# Altium footprint library CONN_HDR_MINI.PcbLib: 37 footprints (part 1 of 3)
Each footprint in its own frame and in the unit in brackets; x right, y up, seen from the top. Pads: shape width x height; smd on the part's side, far side on the other; paste and mask are expansions set on the pad; w line width, h text height; cw(c..) or ccw(c..) is an arc to the next point about the centre after c.
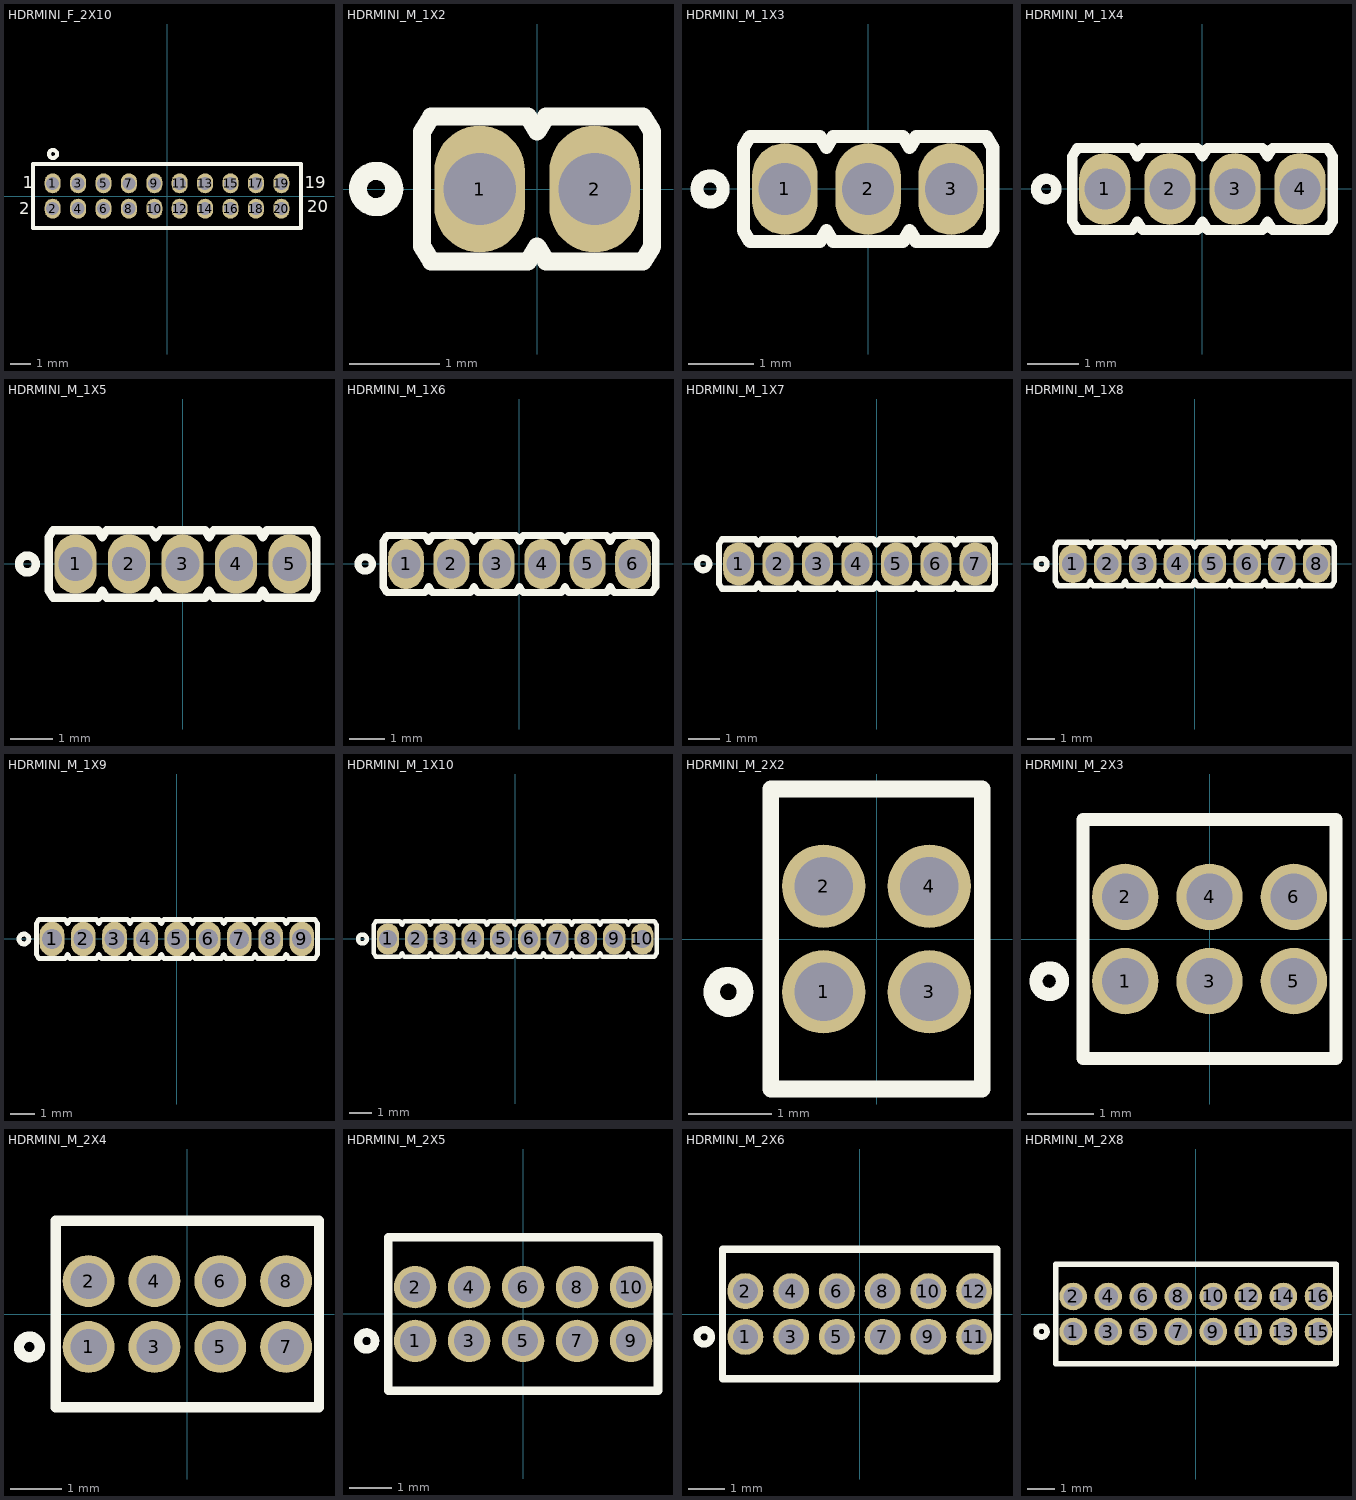
[diagram p0: the footprints below, top view; thin cyan lines are the x and y axes]

## HDRMINI_F_2X10 [mm] "FCI Minitek127® BTB, HEADER UNSHROUDED, 20   Part Number:  20021311-00020T4LF"
height 2
pads (20):
  oval 0.8x1 hole 0.65 mask+0.05: 1(-5.715,0.635) 2(-5.715,-0.635) 3(-4.445,0.635) 4(-4.445,-0.635) 5(-3.175,0.635) 6(-3.175,-0.635) 7(-1.905,0.635) 8(-1.905,-0.635) 9(-0.635,0.635) 10(-0.635,-0.635) 11(0.635,0.635) 12(0.635,-0.635) 13(1.905,0.635) 14(1.905,-0.635) 15(3.175,0.635) 16(3.175,-0.635) 17(4.445,0.635) 18(4.445,-0.635) 19(5.715,0.635) 20(5.715,-0.635)
Top Overlay:
  circle w0.2: c-5.7,2.1 r0.2
  lines w0.2: -6.7,-1.6 6.7,-1.6 6.7,1.6 -6.7,1.6 -6.7,-1.6
  text "20" at 7,-0.8 h0.6
  text "19" at 6.9,0.4 h0.6
  text "1" at -7.2,0.4 h0.6
  text "2" at -7.4,-0.9 h0.6
3D body "hdr127_f.stp": height 4.3, standoff -2.4, extent -6.58,-1.5 6.58,1.5

## HDRMINI_M_1X2 [mm] "mini header (50mil pitch)"
pads (2):
  oval 1x1.4 hole 0.8 mask+0.05: 1(-0.635,0) 2(0.635,0)
Top Overlay:
  circle w0.2: c-1.778,0 r0.2
  lines w0.2: -1.27,-0.635 -1.27,0.635 -1.171,0.8 -0.099,0.8 0,0.635 0.099,0.8 1.171,0.8 1.27,0.635 1.27,-0.635 1.171,-0.8 0.099,-0.8 0,-0.635 -0.099,-0.8 -1.171,-0.8 -1.27,-0.635
3D body: height 7.3, standoff -2.5, extent 0.435,-0.2 0.835,0.2
3D body: height 2.8, standoff 0, extent 0,-0.635 1.27,0.635
3D body: height 2.8, standoff 0, extent -1.27,-0.635 0,0.635
3D body: height 7.3, standoff -2.5, extent -0.835,-0.2 -0.435,0.2

## HDRMINI_M_1X3 [mm] "mini header (50mil pitch)"
pads (3):
  oval 1x1.4 hole 0.8 mask+0.05: 1(-1.27,0) 2(0,0) 3(1.27,0)
Top Overlay:
  circle w0.2: c-2.413,0 r0.2
  lines w0.2: -1.905,-0.635 -1.806,-0.8 -0.734,-0.8 -0.635,-0.635 -0.536,-0.8 0.536,-0.8 0.635,-0.635 0.734,-0.8 1.806,-0.8 1.905,-0.635 1.905,0.635 1.806,0.8 0.734,0.8 0.635,0.635 0.536,0.8 -0.536,0.8 -0.635,0.635 -0.734,0.8 -1.806,0.8 -1.905,0.635 -1.905,-0.635
3D body: height 7.3, standoff -2.5, extent 1.07,-0.2 1.47,0.2
3D body: height 2.8, standoff 0, extent 0.635,-0.635 1.905,0.635
3D body: height 7.3, standoff -2.5, extent -0.2,-0.2 0.2,0.2
3D body: height 2.8, standoff 0, extent -0.635,-0.635 0.635,0.635
3D body: height 7.3, standoff -2.5, extent -1.47,-0.2 -1.07,0.2
3D body: height 2.8, standoff 0, extent -1.905,-0.635 -0.635,0.635

## HDRMINI_M_1X4 [mm] "mini header (50mil pitch)"
pads (4):
  oval 1x1.4 hole 0.8 mask+0.05: 1(-1.905,0) 2(-0.635,0) 3(0.635,0) 4(1.905,0)
Top Overlay:
  circle w0.2: c-3.048,0 r0.2
  lines w0.2: -2.54,-0.635 -2.54,0.635 -2.441,0.8 -1.369,0.8 -1.27,0.635 -1.171,0.8 -0.099,0.8 0,0.635 0.099,0.8 1.171,0.8 1.27,0.635 1.369,0.8 2.441,0.8 2.54,0.635 2.54,-0.635 2.441,-0.8 1.369,-0.8 1.27,-0.635 1.171,-0.8 0.099,-0.8 0,-0.635 -0.099,-0.8 -1.171,-0.8 -1.27,-0.635 -1.369,-0.8 -2.441,-0.8 -2.54,-0.635
3D body: height 2.8, standoff 0, extent -2.54,-0.635 -1.27,0.635
3D body: height 7.3, standoff -2.5, extent -2.105,-0.2 -1.705,0.2
3D body: height 2.8, standoff 0, extent 1.27,-0.635 2.54,0.635
3D body: height 7.3, standoff -2.5, extent 1.705,-0.2 2.105,0.2
3D body: height 2.8, standoff 0, extent 0,-0.635 1.27,0.635
3D body: height 7.3, standoff -2.5, extent 0.435,-0.2 0.835,0.2
3D body: height 2.8, standoff 0, extent -1.27,-0.635 0,0.635
3D body: height 7.3, standoff -2.5, extent -0.835,-0.2 -0.435,0.2

## HDRMINI_M_1X5 [mm] "mini header (50mil pitch)"
pads (5):
  oval 1x1.4 hole 0.8 mask+0.05: 1(-2.54,0) 2(-1.27,0) 3(0,0) 4(1.27,0) 5(2.54,0)
Top Overlay:
  circle w0.2: c-3.683,0 r0.2
  lines w0.2: -3.175,-0.635 -3.175,0.635 -3.076,0.8 -2.004,0.8 -1.905,0.635 -1.806,0.8 -0.734,0.8 -0.635,0.635 -0.536,0.8 0.536,0.8 0.635,0.635 0.734,0.8 1.806,0.8 1.905,0.635 2.004,0.8 3.076,0.8 3.175,0.635 3.175,-0.635 3.076,-0.8 2.004,-0.8 1.905,-0.635 1.806,-0.8 0.734,-0.8 0.635,-0.635 0.536,-0.8 -0.536,-0.8 -0.635,-0.635 -0.734,-0.8 -1.806,-0.8 -1.905,-0.635 -2.004,-0.8 -3.076,-0.8 -3.175,-0.635
3D body: height 2.8, standoff 0, extent -3.175,-0.635 -1.905,0.635
3D body: height 7.3, standoff -2.5, extent -2.74,-0.2 -2.34,0.2
3D body: height 2.8, standoff 0, extent 1.905,-0.635 3.175,0.635
3D body: height 7.3, standoff -2.5, extent 2.34,-0.2 2.74,0.2
3D body: height 2.8, standoff 0, extent 0.635,-0.635 1.905,0.635
3D body: height 7.3, standoff -2.5, extent 1.07,-0.2 1.47,0.2
3D body: height 2.8, standoff 0, extent -0.635,-0.635 0.635,0.635
3D body: height 7.3, standoff -2.5, extent -0.2,-0.2 0.2,0.2
3D body: height 2.8, standoff 0, extent -1.905,-0.635 -0.635,0.635
3D body: height 7.3, standoff -2.5, extent -1.47,-0.2 -1.07,0.2

## HDRMINI_M_1X6 [mm] "mini header (50mil pitch)"
pads (6):
  oval 1x1.4 hole 0.8 mask+0.05: 1(-3.175,0) 2(-1.905,0) 3(-0.635,0) 4(0.635,0) 5(1.905,0) 6(3.175,0)
Top Overlay:
  circle w0.2: c-4.318,0 r0.2
  lines w0.2: -3.81,-0.635 -3.711,-0.8 -2.639,-0.8 -2.54,-0.635 -2.441,-0.8 -1.369,-0.8 -1.27,-0.635 -1.171,-0.8 -0.099,-0.8 0,-0.635 0.099,-0.8 1.171,-0.8 1.27,-0.635 1.369,-0.8 2.441,-0.8 2.54,-0.635 2.639,-0.8 3.711,-0.8 3.81,-0.635 3.81,0.635 3.711,0.8 2.639,0.8 2.54,0.635 2.441,0.8 1.369,0.8 1.27,0.635 1.171,0.8 0.099,0.8 0,0.635 -0.099,0.8 -1.171,0.8 -1.27,0.635 -1.369,0.8 -2.441,0.8 -2.54,0.635 -2.639,0.8 -3.711,0.8 -3.81,0.635 -3.81,-0.635
3D body: height 2.8, standoff 0, extent -2.54,-0.635 -1.27,0.635
3D body: height 7.3, standoff -2.5, extent -2.105,-0.2 -1.705,0.2
3D body: height 2.8, standoff 0, extent -1.27,-0.635 0,0.635
3D body: height 7.3, standoff -2.5, extent -0.835,-0.2 -0.435,0.2
3D body: height 2.8, standoff 0, extent 0,-0.635 1.27,0.635
3D body: height 7.3, standoff -2.5, extent 0.435,-0.2 0.835,0.2
3D body: height 2.8, standoff 0, extent 1.27,-0.635 2.54,0.635
3D body: height 7.3, standoff -2.5, extent 1.705,-0.2 2.105,0.2
3D body: height 2.8, standoff 0, extent 2.54,-0.635 3.81,0.635
3D body: height 7.3, standoff -2.5, extent 2.975,-0.2 3.375,0.2
3D body: height 7.3, standoff -2.5, extent -3.375,-0.2 -2.975,0.2
3D body: height 2.8, standoff 0, extent -3.81,-0.635 -2.54,0.635

## HDRMINI_M_1X7 [mm] "mini header (50mil pitch)"
pads (7):
  oval 1x1.4 hole 0.8 mask+0.05: 1(-4.445,0) 2(-3.175,0) 3(-1.905,0) 4(-0.635,0) 5(0.635,0) 6(1.905,0) 7(3.175,0)
Top Overlay:
  circle w0.2: c-5.588,0 r0.2
  lines w0.2: -5.08,-0.635 -4.981,-0.8 -3.909,-0.8 -3.81,-0.635 -3.711,-0.8 -2.639,-0.8 -2.54,-0.635 -2.441,-0.8 -1.369,-0.8 -1.27,-0.635 -1.171,-0.8 -0.099,-0.8 0,-0.635 0.099,-0.8 1.171,-0.8 1.27,-0.635 1.369,-0.8 2.441,-0.8 2.54,-0.635 2.639,-0.8 3.711,-0.8 3.81,-0.635 3.81,0.635 3.711,0.8 2.639,0.8 2.54,0.635 2.441,0.8 1.369,0.8 1.27,0.635 1.171,0.8 0.099,0.8 0,0.635 -0.099,0.8 -1.171,0.8 -1.27,0.635 -1.369,0.8 -2.441,0.8 -2.54,0.635 -2.639,0.8 -3.711,0.8 -3.81,0.635 -3.909,0.8 -4.981,0.8 -5.08,0.635 -5.08,-0.635
3D body: height 2.8, standoff 0, extent -3.81,-0.635 -2.54,0.635
3D body: height 7.3, standoff -2.5, extent -3.375,-0.2 -2.975,0.2
3D body: height 2.8, standoff 0, extent -2.54,-0.635 -1.27,0.635
3D body: height 7.3, standoff -2.5, extent -2.105,-0.2 -1.705,0.2
3D body: height 2.8, standoff 0, extent -1.27,-0.635 0,0.635
3D body: height 7.3, standoff -2.5, extent -0.835,-0.2 -0.435,0.2
3D body: height 2.8, standoff 0, extent 0,-0.635 1.27,0.635
3D body: height 7.3, standoff -2.5, extent 0.435,-0.2 0.835,0.2
3D body: height 2.8, standoff 0, extent 1.27,-0.635 2.54,0.635
3D body: height 7.3, standoff -2.5, extent 1.705,-0.2 2.105,0.2
3D body: height 7.3, standoff -2.5, extent 2.975,-0.2 3.375,0.2
3D body: height 2.8, standoff 0, extent 2.54,-0.635 3.81,0.635
3D body: height 7.3, standoff -2.5, extent -4.645,-0.2 -4.245,0.2
3D body: height 2.8, standoff 0, extent -5.08,-0.635 -3.81,0.635

## HDRMINI_M_1X8 [mm] "mini header (50mil pitch)"
pads (8):
  oval 1x1.4 hole 0.8 mask+0.05: 1(-4.445,0) 2(-3.175,0) 3(-1.905,0) 4(-0.635,0) 5(0.635,0) 6(1.905,0) 7(3.175,0) 8(4.445,0)
Top Overlay:
  circle w0.2: c-5.588,0 r0.2
  lines w0.2: -5.08,-0.635 -4.981,-0.8 -3.909,-0.8 -3.81,-0.635 -3.711,-0.8 -2.639,-0.8 -2.54,-0.635 -2.441,-0.8 -1.369,-0.8 -1.27,-0.635 -1.171,-0.8 -0.099,-0.8 0,-0.635 0.099,-0.8 1.171,-0.8 1.27,-0.635 1.369,-0.8 2.441,-0.8 2.54,-0.635 2.639,-0.8 3.711,-0.8 3.81,-0.635 3.909,-0.8 4.981,-0.8 5.08,-0.635 5.08,0.635 4.981,0.8 3.909,0.8 3.81,0.635 3.711,0.8 2.639,0.8 2.54,0.635 2.441,0.8 1.369,0.8 1.27,0.635 1.171,0.8 0.099,0.8 0,0.635 -0.099,0.8 -1.171,0.8 -1.27,0.635 -1.369,0.8 -2.441,0.8 -2.54,0.635 -2.639,0.8 -3.711,0.8 -3.81,0.635 -3.909,0.8 -4.981,0.8 -5.08,0.635 -5.08,-0.635
3D body: height 2.8, standoff 0, extent -3.81,-0.635 -2.54,0.635
3D body: height 7.3, standoff -2.5, extent -3.375,-0.2 -2.975,0.2
3D body: height 2.8, standoff 0, extent -2.54,-0.635 -1.27,0.635
3D body: height 7.3, standoff -2.5, extent -2.105,-0.2 -1.705,0.2
3D body: height 2.8, standoff 0, extent -1.27,-0.635 0,0.635
3D body: height 7.3, standoff -2.5, extent -0.835,-0.2 -0.435,0.2
3D body: height 2.8, standoff 0, extent 0,-0.635 1.27,0.635
3D body: height 7.3, standoff -2.5, extent 0.435,-0.2 0.835,0.2
3D body: height 2.8, standoff 0, extent 1.27,-0.635 2.54,0.635
3D body: height 7.3, standoff -2.5, extent 1.705,-0.2 2.105,0.2
3D body: height 7.3, standoff -2.5, extent 2.975,-0.2 3.375,0.2
3D body: height 2.8, standoff 0, extent 2.54,-0.635 3.81,0.635
3D body: height 7.3, standoff -2.5, extent 4.245,-0.2 4.645,0.2
3D body: height 2.8, standoff 0, extent 3.81,-0.635 5.08,0.635
3D body: height 7.3, standoff -2.5, extent -4.645,-0.2 -4.245,0.2
3D body: height 2.8, standoff 0, extent -5.08,-0.635 -3.81,0.635

## HDRMINI_M_1X9 [mm] "mini header (50mil pitch)"
pads (9):
  oval 1x1.4 hole 0.8 mask+0.05: 1(-5.08,0) 2(-3.81,0) 3(-2.54,0) 4(-1.27,0) 5(0,0) 6(1.27,0) 7(2.54,0) 8(3.81,0) 9(5.08,0)
Top Overlay:
  circle w0.2: c-6.223,0 r0.2
  lines w0.2: -5.715,-0.635 -5.616,-0.8 -4.544,-0.8 -4.445,-0.635 -4.346,-0.8 -3.274,-0.8 -3.175,-0.635 -3.076,-0.8 -2.004,-0.8 -1.905,-0.635 -1.806,-0.8 -0.734,-0.8 -0.635,-0.635 -0.536,-0.8 0.536,-0.8 0.635,-0.635 0.734,-0.8 1.806,-0.8 1.905,-0.635 2.004,-0.8 3.076,-0.8 3.175,-0.635 3.274,-0.8 4.346,-0.8 4.445,-0.635 4.544,-0.8 5.616,-0.8 5.715,-0.635 5.715,0.635 5.616,0.8 4.544,0.8 4.445,0.635 4.346,0.8 3.274,0.8 3.175,0.635 3.076,0.8 2.004,0.8 1.905,0.635 1.806,0.8 0.734,0.8 0.635,0.635 0.536,0.8 -0.536,0.8 -0.635,0.635 -0.734,0.8 -1.806,0.8 -1.905,0.635 -2.004,0.8 -3.076,0.8 -3.175,0.635 -3.274,0.8 -4.346,0.8 -4.445,0.635 -4.544,0.8 -5.616,0.8 -5.715,0.635 -5.715,-0.635
3D body: height 7.3, standoff -2.5, extent -5.28,-0.2 -4.88,0.2
3D body: height 2.8, standoff 0, extent -5.715,-0.635 -4.445,0.635
3D body: height 7.3, standoff -2.5, extent -4.01,-0.2 -3.61,0.2
3D body: height 2.8, standoff 0, extent -4.445,-0.635 -3.175,0.635
3D body: height 7.3, standoff -2.5, extent -2.74,-0.2 -2.34,0.2
3D body: height 2.8, standoff 0, extent -3.175,-0.635 -1.905,0.635
3D body: height 7.3, standoff -2.5, extent -1.47,-0.2 -1.07,0.2
3D body: height 2.8, standoff 0, extent -1.905,-0.635 -0.635,0.635
3D body: height 7.3, standoff -2.5, extent -0.2,-0.2 0.2,0.2
3D body: height 2.8, standoff 0, extent -0.635,-0.635 0.635,0.635
3D body: height 7.3, standoff -2.5, extent 1.07,-0.2 1.47,0.2
3D body: height 2.8, standoff 0, extent 0.635,-0.635 1.905,0.635
3D body: height 7.3, standoff -2.5, extent 2.34,-0.2 2.74,0.2
3D body: height 2.8, standoff 0, extent 1.905,-0.635 3.175,0.635
3D body: height 7.3, standoff -2.5, extent 3.61,-0.2 4.01,0.2
3D body: height 2.8, standoff 0, extent 3.175,-0.635 4.445,0.635
3D body: height 7.3, standoff -2.5, extent 4.88,-0.2 5.28,0.2
3D body: height 2.8, standoff 0, extent 4.445,-0.635 5.715,0.635

## HDRMINI_M_1X10 [mm] "mini header (50mil pitch)"
pads (10):
  oval 1x1.4 hole 0.8 mask+0.05: 1(-5.715,0) 2(-4.445,0) 3(-3.175,0) 4(-1.905,0) 5(-0.635,0) 6(0.635,0) 7(1.905,0) 8(3.175,0) 9(4.445,0) 10(5.715,0)
Top Overlay:
  circle w0.2: c-6.858,0 r0.2
  lines w0.2: -6.35,-0.635 -6.251,-0.8 -5.179,-0.8 -5.08,-0.635 -4.981,-0.8 -3.909,-0.8 -3.81,-0.635 -3.711,-0.8 -2.639,-0.8 -2.54,-0.635 -2.441,-0.8 -1.369,-0.8 -1.27,-0.635 -1.171,-0.8 -0.099,-0.8 0,-0.635 0.099,-0.8 1.171,-0.8 1.27,-0.635 1.369,-0.8 2.441,-0.8 2.54,-0.635 2.639,-0.8 3.711,-0.8 3.81,-0.635 3.909,-0.8 4.981,-0.8 5.08,-0.635 5.179,-0.8 6.251,-0.8 6.35,-0.635 6.35,0.635 6.251,0.8 5.179,0.8 5.08,0.635 4.981,0.8 3.909,0.8 3.81,0.635 3.711,0.8 2.639,0.8 2.54,0.635 2.441,0.8 1.369,0.8 1.27,0.635 1.171,0.8 0.099,0.8 0,0.635 -0.099,0.8 -1.171,0.8 -1.27,0.635 -1.369,0.8 -2.441,0.8 -2.54,0.635 -2.639,0.8 -3.711,0.8 -3.81,0.635 -3.909,0.8 -4.981,0.8 -5.08,0.635 -5.179,0.8 -6.251,0.8 -6.35,0.635 -6.35,-0.635
3D body: height 7.3, standoff -2.5, extent 5.515,-0.2 5.915,0.2
3D body: height 2.8, standoff 0, extent 5.08,-0.635 6.35,0.635
3D body: height 7.3, standoff -2.5, extent -5.915,-0.2 -5.515,0.2
3D body: height 2.8, standoff 0, extent -6.35,-0.635 -5.08,0.635
3D body: height 7.3, standoff -2.5, extent -4.645,-0.2 -4.245,0.2
3D body: height 2.8, standoff 0, extent -5.08,-0.635 -3.81,0.635
3D body: height 7.3, standoff -2.5, extent -3.375,-0.2 -2.975,0.2
3D body: height 2.8, standoff 0, extent -3.81,-0.635 -2.54,0.635
3D body: height 7.3, standoff -2.5, extent -2.105,-0.2 -1.705,0.2
3D body: height 2.8, standoff 0, extent -2.54,-0.635 -1.27,0.635
3D body: height 7.3, standoff -2.5, extent -0.835,-0.2 -0.435,0.2
3D body: height 2.8, standoff 0, extent -1.27,-0.635 0,0.635
3D body: height 7.3, standoff -2.5, extent 0.435,-0.2 0.835,0.2
3D body: height 2.8, standoff 0, extent 0,-0.635 1.27,0.635
3D body: height 7.3, standoff -2.5, extent 1.705,-0.2 2.105,0.2
3D body: height 2.8, standoff 0, extent 1.27,-0.635 2.54,0.635
3D body: height 7.3, standoff -2.5, extent 2.975,-0.2 3.375,0.2
3D body: height 2.8, standoff 0, extent 2.54,-0.635 3.81,0.635
3D body: height 7.3, standoff -2.5, extent 4.245,-0.2 4.645,0.2
3D body: height 2.8, standoff 0, extent 3.81,-0.635 5.08,0.635

## HDRMINI_M_2X2 [mm] "mini header (50mil pitch)"
pads (4):
  round 1 hole 0.7 mask+0.05: 1(-0.635,-0.635) 2(-0.635,0.635) 3(0.635,-0.635) 4(0.635,0.635)
Top Overlay:
  circle w0.2: c-1.778,-0.635 r0.2
  lines w0.2: -1.27,-1.8 1.27,-1.8 1.27,1.8 -1.27,1.8 -1.27,-1.8
3D body "20021111-00004XXLFc.stp": height 5.6, standoff -2.25, extent -1.27,-1.7 1.27,1.7

## HDRMINI_M_2X3 [mm] "mini header (50mil pitch)"
pads (6):
  round 1 hole 0.7 mask+0.05: 1(-1.27,-0.635) 2(-1.27,0.635) 3(0,-0.635) 4(0,0.635) 5(1.27,-0.635) 6(1.27,0.635)
Top Overlay:
  circle w0.2: c-2.413,-0.635 r0.2
  lines w0.2: -1.905,-1.8 -1.905,1.8 1.905,1.8 1.905,-1.8 -1.905,-1.8
3D body "20021111-00006XXLFc.stp": height 5.6, standoff -2.25, extent -1.905,-1.7 1.905,1.7

## HDRMINI_M_2X4 [mm] "mini header (50mil pitch)"
pads (8):
  round 1 hole 0.7 mask+0.05: 1(-1.905,-0.635) 2(-1.905,0.635) 3(-0.635,-0.635) 4(-0.635,0.635) 5(0.635,-0.635) 6(0.635,0.635) 7(1.905,-0.635) 8(1.905,0.635)
Top Overlay:
  circle w0.2: c-3.048,-0.635 r0.2
  lines w0.2: -2.54,-1.8 -2.54,1.8 2.54,1.8 2.54,-1.8 -2.54,-1.8
3D body "20021111-00004XXLFc.stp": height 5.6, standoff -2.25, extent 0,-1.7 2.54,1.7
3D body "20021111-00004XXLFc.stp": height 5.6, standoff -2.25, extent -2.54,-1.7 0,1.7

## HDRMINI_M_2X5 [mm] "mini header (50mil pitch)"
pads (10):
  round 1 hole 0.7 mask+0.05: 1(-2.54,-0.635) 2(-2.54,0.635) 3(-1.27,-0.635) 4(-1.27,0.635) 5(0,-0.635) 6(0,0.635) 7(1.27,-0.635) 8(1.27,0.635) 9(2.54,-0.635) 10(2.54,0.635)
Top Overlay:
  circle w0.2: c-3.683,-0.635 r0.2
  lines w0.2: -3.175,-1.8 -3.175,1.8 3.175,1.8 3.175,-1.8 -3.175,-1.8
3D body "20021111-00006XXLFc.stp": height 5.6, standoff -2.25, extent -0.635,-1.7 3.175,1.7
3D body "20021111-00004XXLFc.stp": height 5.6, standoff -2.25, extent -3.175,-1.7 -0.635,1.7

## HDRMINI_M_2X6 [mm] "mini header (50mil pitch)"
pads (12):
  round 1 hole 0.7 mask+0.05: 1(-3.175,-0.635) 2(-3.175,0.635) 3(-1.905,-0.635) 4(-1.905,0.635) 5(-0.635,-0.635) 6(-0.635,0.635) 7(0.635,-0.635) 8(0.635,0.635) 9(1.905,-0.635) 10(1.905,0.635) 11(3.175,-0.635) 12(3.175,0.635)
Top Overlay:
  circle w0.2: c-4.318,-0.635 r0.2
  lines w0.2: -3.81,-1.8 3.81,-1.8 3.81,1.8 -3.81,1.8 -3.81,-1.8
3D body "20021111-00004XXLFc.stp": height 5.6, standoff -2.25, extent -1.27,-1.7 1.27,1.7
3D body "20021111-00004XXLFc.stp": height 5.6, standoff -2.25, extent -3.81,-1.7 -1.27,1.7
3D body "20021111-00004XXLFc.stp": height 5.6, standoff -2.25, extent 1.27,-1.7 3.81,1.7

## HDRMINI_M_2X8 [mm] "mini header (50mil pitch)"
pads (16):
  round 1 hole 0.7 mask+0.05: 1(-4.445,-0.635) 2(-4.445,0.635) 3(-3.175,-0.635) 4(-3.175,0.635) 5(-1.905,-0.635) 6(-1.905,0.635) 7(-0.635,-0.635) 8(-0.635,0.635) 9(0.635,-0.635) 10(0.635,0.635) 11(1.905,-0.635) 12(1.905,0.635) 13(3.175,-0.635) 14(3.175,0.635) 15(4.445,-0.635) 16(4.445,0.635)
Top Overlay:
  circle w0.2: c-5.588,-0.635 r0.2
  lines w0.2: 5.07,-1.8 -5.08,-1.8 -5.08,1.8 5.08,1.8 5.08,-1.8
3D body "20021111-00004XXLFc.stp": height 5.6, standoff -2.25, extent -2.54,-1.7 0,1.7
3D body "20021111-00004XXLFc.stp": height 5.6, standoff -2.25, extent -5.08,-1.7 -2.54,1.7
3D body "20021111-00004XXLFc.stp": height 5.6, standoff -2.25, extent 2.54,-1.7 5.08,1.7
3D body "20021111-00004XXLFc.stp": height 5.6, standoff -2.25, extent 0,-1.7 2.54,1.7